# Altium schematic symbol library Schlib.SchLib: 2 symbols
Pins are listed as number, name and electrical type; pins without a type are passive.

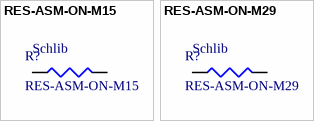
[diagram p0: symbols RES-ASM-ON-M15 to RES-ASM-ON-M29]

## RES-ASM-ON-M15
designator R?
ASM ON M15
footprint R0805-ASM-ON-M15
pins: 1, 2
text: Schlib

## RES-ASM-ON-M29
designator R?
ASM ON M29
footprint R0805-ASM-ON-M29
pins: 1, 2
text: Schlib